# Altium footprint library Z80-ays.PcbLib: 17 footprints (part 1 of 2)
Each footprint in its own frame and in the unit in brackets; x right, y up, seen from the top. Pads: shape width x height; smd on the part's side, far side on the other; paste and mask are expansions set on the pad; w line width, h text height; cw(c..) or ccw(c..) is an arc to the next point about the centre after c.
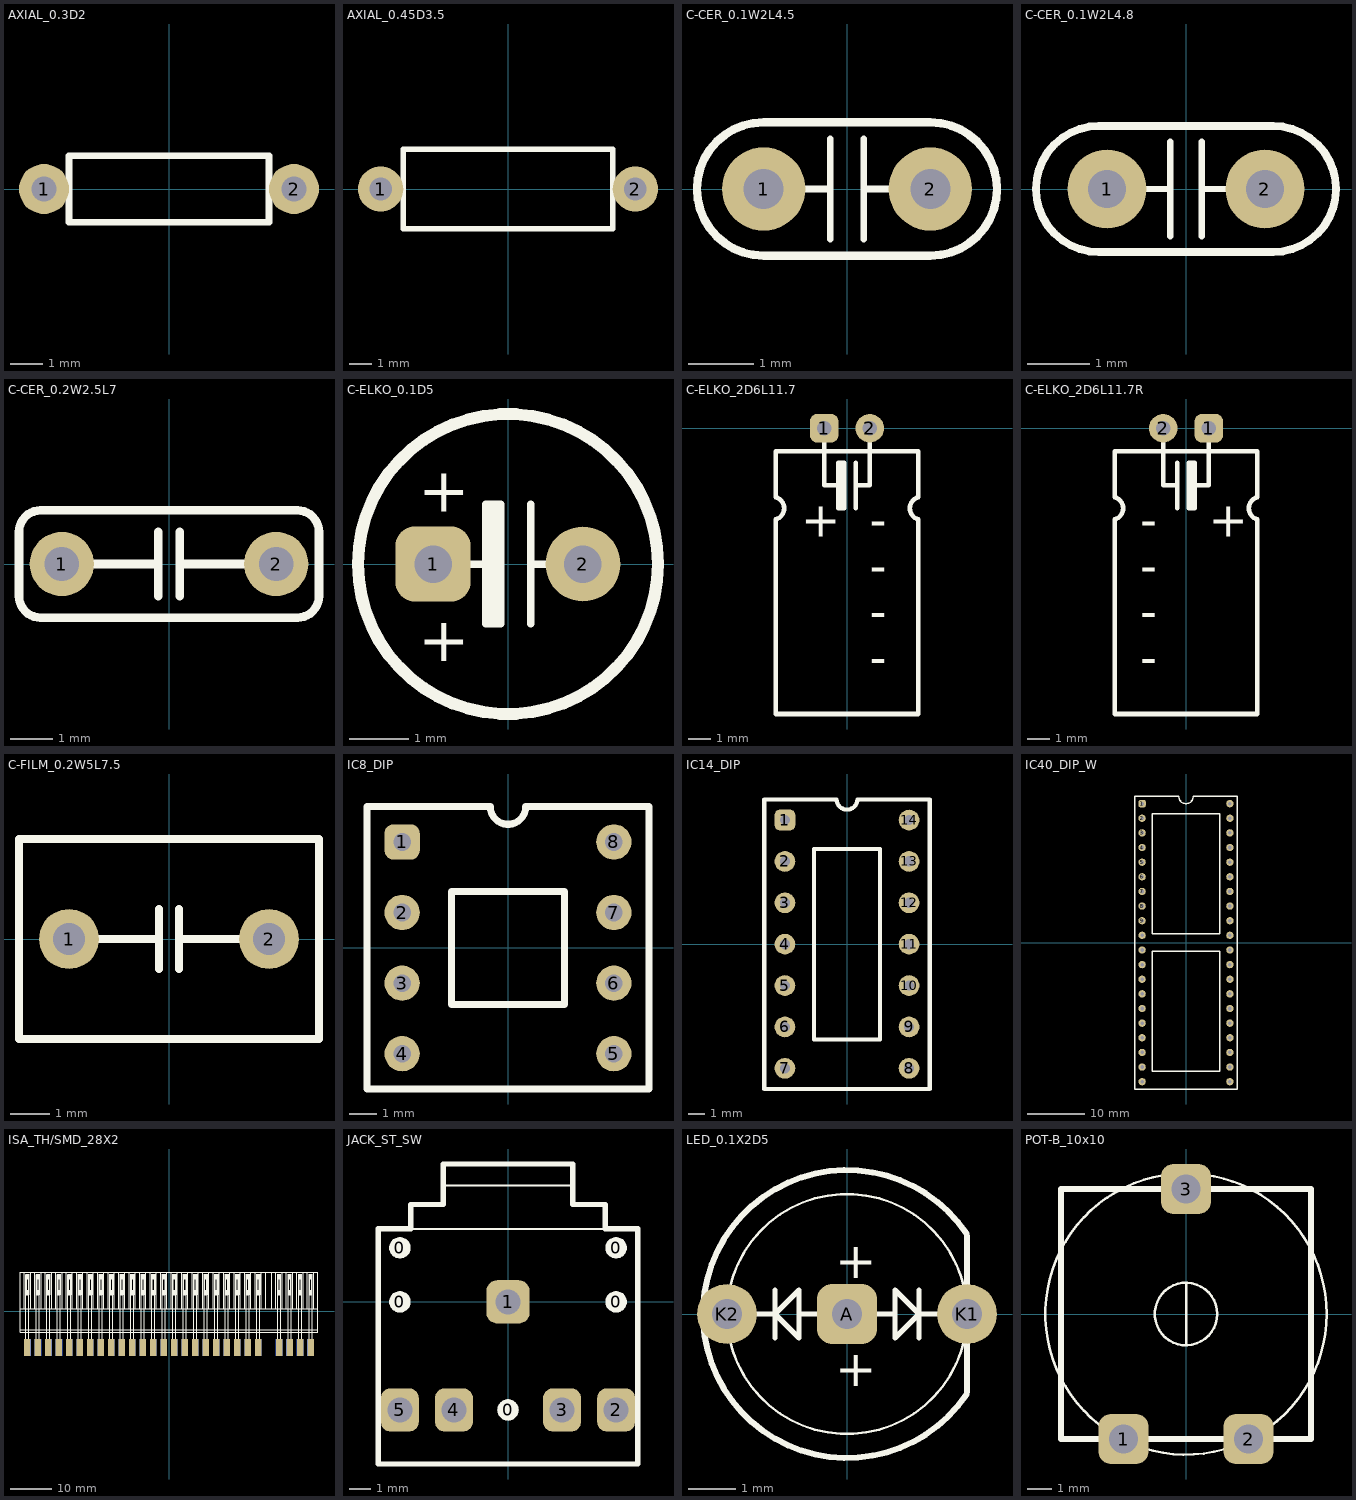
[diagram p0: the footprints below, top view; thin cyan lines are the x and y axes]

## AXIAL_0.3D2 [mil]
pads (2):
  round 60 hole 30: 1(-150,0) 2(150,0)
Top Overlay:
  lines w8: -150,0 -120,0 ; 120,0 150,0 ; -120,-40 120,-40 120,40 -120,40 -120,-40

## AXIAL_0.45D3.5 [mil]
pads (2):
  round 80 hole 40: 1(-225,0) 2(225,0)
Top Overlay:
  lines w8: -225,0 -185,0 ; 185,0 225,0
  lines w10: -185,-70 185,-70 185,70 -185,70 -185,-70

## C-CER_0.1W2L4.5 [mil]
pads (2):
  round 50 hole 24: 1(-50,0) 2(50,0)
Top Overlay:
  lines w4: -50,0 -10,0 ; -10,-30 -10,30 ; 10,-30 10,30 ; 10,0 50,0
  lines w5: -90,0 ccw(c-50,0) -50,-40 50,-40 ccw(c50,0) 90,0 ccw(c50,0) 50,40 -50,40 ccw(c-50,0) -90,0

## C-CER_0.1W2L4.8 [mil]
pads (2):
  round 50 hole 24: 1(-50,0) 2(50,0)
Top Overlay:
  lines w4: -50,0 -10,0 ; -10,-30 -10,30 ; 10,-30 10,30 ; 10,0 50,0
  lines w5: -95,0 ccw(c-55,0) -55,-40 55,-40 ccw(c55,0) 95,0 ccw(c55,0) 55,40 -55,40 ccw(c-55,0) -95,0

## C-CER_0.2W2.5L7 [mil]
pads (2):
  round 60 hole 32: 1(-100,0) 2(100,0)
Top Overlay:
  lines w8: -100,0 -10,0 ; -10,-30 -10,30 ; 10,-30 10,30 ; 10,0 100,0 ; -140,-30 ccw(c-120,-30) -120,-50 120,-50 ccw(c120,-30) 140,-30 140,30 ccw(c120,30) 120,50 -120,50 ccw(c-120,30) -140,30 -140,-30

## C-ELKO_0.1D5 [mil]
pads (2):
  rrect50% 50x50 hole 25: 1(-50,0)
  round 50 hole 25: 2(50,0)
Top Overlay:
  circle w8: c0,0 r100
  rectangle: -15,-40 -5,40
  lines w5: -50,0 -15,0 ; 15,-40 15,40 ; 15,0 50,0 ; -15,-40 -15,40 -5,40 -5,-40 -15,-40
  text "+" at -60,-65 h30
  text "+" at -60,35 h30

## C-ELKO_2D6L11.7 [mil]
pads (2):
  rrect50% 50x50 hole 25: 1(-40,0)
  round 50 hole 25: 2(40,0)
Top Overlay:
  rectangle: -15,-140 -5,-60
  lines w8: -125,-160 -125,-500 125,-500 125,-160 ; -125,-120 -125,-40 125,-40 125,-120 ; -124.82,-159.32 ccw(c-130,-140) -124.82,-120.68 ; -40,0 -40,-100 -15,-100 ; 15,-140 15,-60 ; 15,-100 40,-100 40,0 ; 124.82,-159.32 cw(c130,-140) 124.82,-120.68 ; -15,-140 -15,-60 -5,-60 -5,-140 -15,-140
  text "-" at 40,-270 h60
  text "-" at 40,-350 h60
  text "+" at -80,-190 h60
  text "-" at 40,-430 h60
  text "-" at 40,-190 h60

## C-ELKO_2D6L11.7R [mil]
pads (2):
  rrect50% 50x50 hole 25: 1(40,0)
  round 50 hole 25: 2(-40,0)
Top Overlay:
  region: 15,-60 5,-60 5,-140 15,-140
  lines w8: -125,-160 -125,-500 125,-500 125,-160 ; -125,-120 -125,-40 125,-40 125,-120 ; -124.82,-159.32 ccw(c-130,-140) -124.82,-120.68 ; -40,0 -40,-100 -15,-100 ; -15,-140 -15,-60 ; 15,-100 40,-100 40,0 ; 124.82,-159.32 cw(c130,-140) 124.82,-120.68 ; 5,-140 15,-140 15,-60 5,-60 5,-140
  text "-" at -80,-270 h60
  text "-" at -80,-350 h60
  text "-" at -80,-430 h60
  text "-" at -80,-190 h60
  text "+" at 40,-190 h60

## C-FILM_0.2W5L7.5 [mil]
pads (2):
  round 60 hole 32: 1(-100,0) 2(100,0)
Top Overlay:
  lines w8: -100,0 -10,0 ; -10,-30 -10,30 ; 10,-30 10,30 ; 10,0 100,0 ; -150,-100 -150,100 150,100 150,-100 -150,-100

## IC8_DIP [mil]
pads (8):
  rrect50% 50x50 hole 25: 1(-150,150)
  round 50 hole 25: 2(-150,50) 3(-150,-50) 4(-150,-150) 5(150,-150) 6(150,-50) 7(150,50) 8(150,150)
Top Overlay:
  lines w10: -200,-200 -200,200 -25,200 ccw(c0,200) 25,200 200,200 200,-200 -200,-200 ; -80,-80 80,-80 80,80 -80,80 -80,-80

## IC14_DIP [mil]
pads (14):
  rrect50% 50x50 hole 25: 1(-150,300)
  round 50 hole 25: 2(-150,200) 3(-150,100) 4(-150,0) 5(-150,-100) 6(-150,-200) 7(-150,-300) 8(150,-300) 9(150,-200) 10(150,-100) 11(150,0) 12(150,100) 13(150,200) 14(150,300)
Top Overlay:
  lines w10: -200,-350 200,-350 200,350 25,350 cw(c0,350) -25,350 -200,350 -200,-350 ; -80,-230 -80,230 80,230 80,-230 -80,-230

## IC40_DIP_W [mil]
pads (40):
  rrect50% 50x50 hole 25: 1(-300,950)
  round 50 hole 25: 2(-300,850) 3(-300,750) 4(-300,650) 5(-300,550) 6(-300,450) 7(-300,350) 8(-300,250) 9(-300,150) 10(-300,50) 11(-300,-50) 12(-300,-150) 13(-300,-250) 14(-300,-350) 15(-300,-450) 16(-300,-550) 17(-300,-650) 18(-300,-750) 19(-300,-850) 20(-300,-950) 21(300,-950) 22(300,-850) 23(300,-750) 24(300,-650) 25(300,-550) 26(300,-450) 27(300,-350) 28(300,-250) 29(300,-150) 30(300,-50) 31(300,50) 32(300,150) 33(300,250) 34(300,350) 35(300,450) 36(300,550) 37(300,650) 38(300,750) 39(300,850) 40(300,950)
Top Overlay:
  lines w10: -350,-1000 -350,1000 -50,1000 ccw(c0,1000) 50,1000 350,1000 350,-1000 -350,-1000 ; -230,-880 -230,-60 230,-60 230,-880 -230,-880 ; -230,60 -230,880 230,880 230,60 -230,60

## ISA_TH/SMD_28X2 [mil]
pads (54):
  rect 60x160 smd: 1(1350,-345) 3(1250,-345) 5(1150,-345) 7(1050,-345) 11(850,-345) 13(750,-345) 15(650,-345) 17(550,-345) 19(450,-345) 21(350,-345) 23(250,-345) 25(150,-345) 27(50,-345) 29(-50,-345) 31(-150,-345) 33(-250,-345) 35(-350,-345) 37(-450,-345) 39(-550,-345) 41(-650,-345) 43(-750,-345) 45(-850,-345) 47(-950,-345) 49(-1050,-345) 51(-1150,-345) 53(-1250,-345) 55(-1350,-345)
  rect 60x160 smd far side: 2(1350,-345) 4(1250,-345) 6(1150,-345) 8(1050,-345) 12(850,-345) 14(750,-345) 16(650,-345) 18(550,-345) 20(450,-345) 22(350,-345) 24(250,-345) 26(150,-345) 28(50,-345) 30(-50,-345) 32(-150,-345) 34(-250,-345) 36(-350,-345) 38(-450,-345) 40(-550,-345) 42(-650,-345) 44(-750,-345) 46(-850,-345) 48(-950,-345) 50(-1050,-345) 52(-1150,-345) 54(-1250,-345) 56(-1350,-345)
Top Overlay:
  drawing of 386 lines, arcs and shapes, not listed
Bottom Overlay:
  drawing of 386 lines, arcs and shapes, not listed

## JACK_ST_SW [mil]
pads (10):
  round 40 on Top Overlay: 0(-200,0) 0(-200,100) 0(0,-200) 0(200,0) 0(200,100)
  rrect50% 80x80 hole 46: 1(0,0)
  rrect50% 70x80 hole 46: 2(200,-200) 3(100,-200) 4(-100,-200) 5(-200,-200)
Top Overlay:
  lines w4: -175,135 185,135 ; -115,215 120,215
  lines w10: -240,-300 -240,135 -180,135 -180,180 -120,180 -120,255 120,255 120,180 180,180 180,135 240,135 240,-300 -240,-300

## LED_0.1X2D5 [mil]
pads (3):
  rrect50% 50x50 hole 25: A(0,0)
  round 50 hole 25: K1(100,0) K2(-100,0)
Top Overlay:
  circle w2: c0,0 r100
  lines w4: -100,0 -60,0 ; -60,-20 -60,20 ; -40,0 40,0 ; 60,-20 60,20 ; 100,0 60,0 ; -60,0 -40,20 -40,-20 -60,0 ; 60,0 40,20 40,-20 60,0
  lines w5: 99.48,-67.1 cw(c0,0) 99.48,67.1 ; 100,-65 100,65
  text "+" at -10,-60 h30
  text "+" at -10,30 h30

## POT-B_10x10 [mil]
pads (3):
  rrect50% 80x80 hole 46: 1(-100,-200) 2(100,-200) 3(0,200)
Top Overlay:
  circle w4: c0,0 r50
  circle w4: c0,0 r225
  lines w4: 0,-50 0,50
  lines w10: -200,-200 -200,200 200,200 200,-200 -200,-200